# Altium schematic symbol library NCP699.SchLib: 1 symbol
Pins are listed as number, name and electrical type; pins without a type are passive.

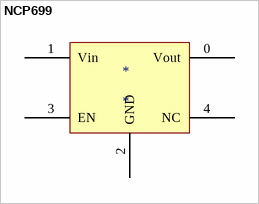
[diagram p0: symbol NCP699]

## NCP699
designator *
footprint SOT23-5AL (SOT23, 5-Leads, Body 2.9x1.6mm, Pitch 0.95mm, Lead Span 2.8mm, IPC High Density)
pins: 0 Vout, 1 Vin, 2 GND, 3 EN, 4 NC